# Altium footprint library PM5432.PcbLib: 1 footprints
Each footprint in its own frame and in the unit in brackets; x right, y up, seen from the top. Pads: shape width x height; smd on the part's side, far side on the other; paste and mask are expansions set on the pad; w line width, h text height; cw(c..) or ccw(c..) is an arc to the next point about the centre after c.
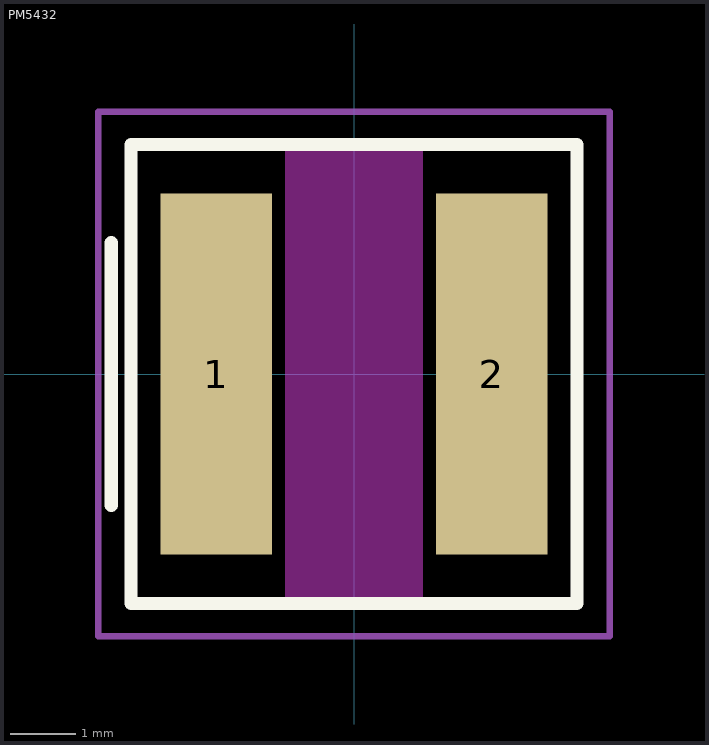
[diagram p0: the footprint, top view; thin cyan lines are the x and y axes]

## PM5432 [mm]
pads (2):
  rect 1.7x5.5 smd paste-0.282: 1(-2.1,0) 2(2.1,0)
Top Layer keep-out:
  rectangle: -1.05,-3.5 1.05,3.5
Top Overlay:
  lines w0.2: -3.7,-2 -3.7,2 ; -3.4,-3.5 -3.4,3.5 3.4,3.5 3.4,-3.5 -3.4,-3.5
Top Courtyard:
  lines w0.1: -3.9,-4 -3.4,-4 3.9,-4 3.9,4 -3.9,4 -3.9,-4
3D body "PA5432.STEP": height 6, standoff 0, extent -3.3,-3.4 3.3,3.4